# Altium footprint library Passive.PcbLib: 41 footprints (part 2 of 3)
Each footprint in its own frame and in the unit in brackets; x right, y up, seen from the top. Pads: shape width x height; smd on the part's side, far side on the other; paste and mask are expansions set on the pad; w line width, h text height; cw(c..) or ccw(c..) is an arc to the next point about the centre after c.
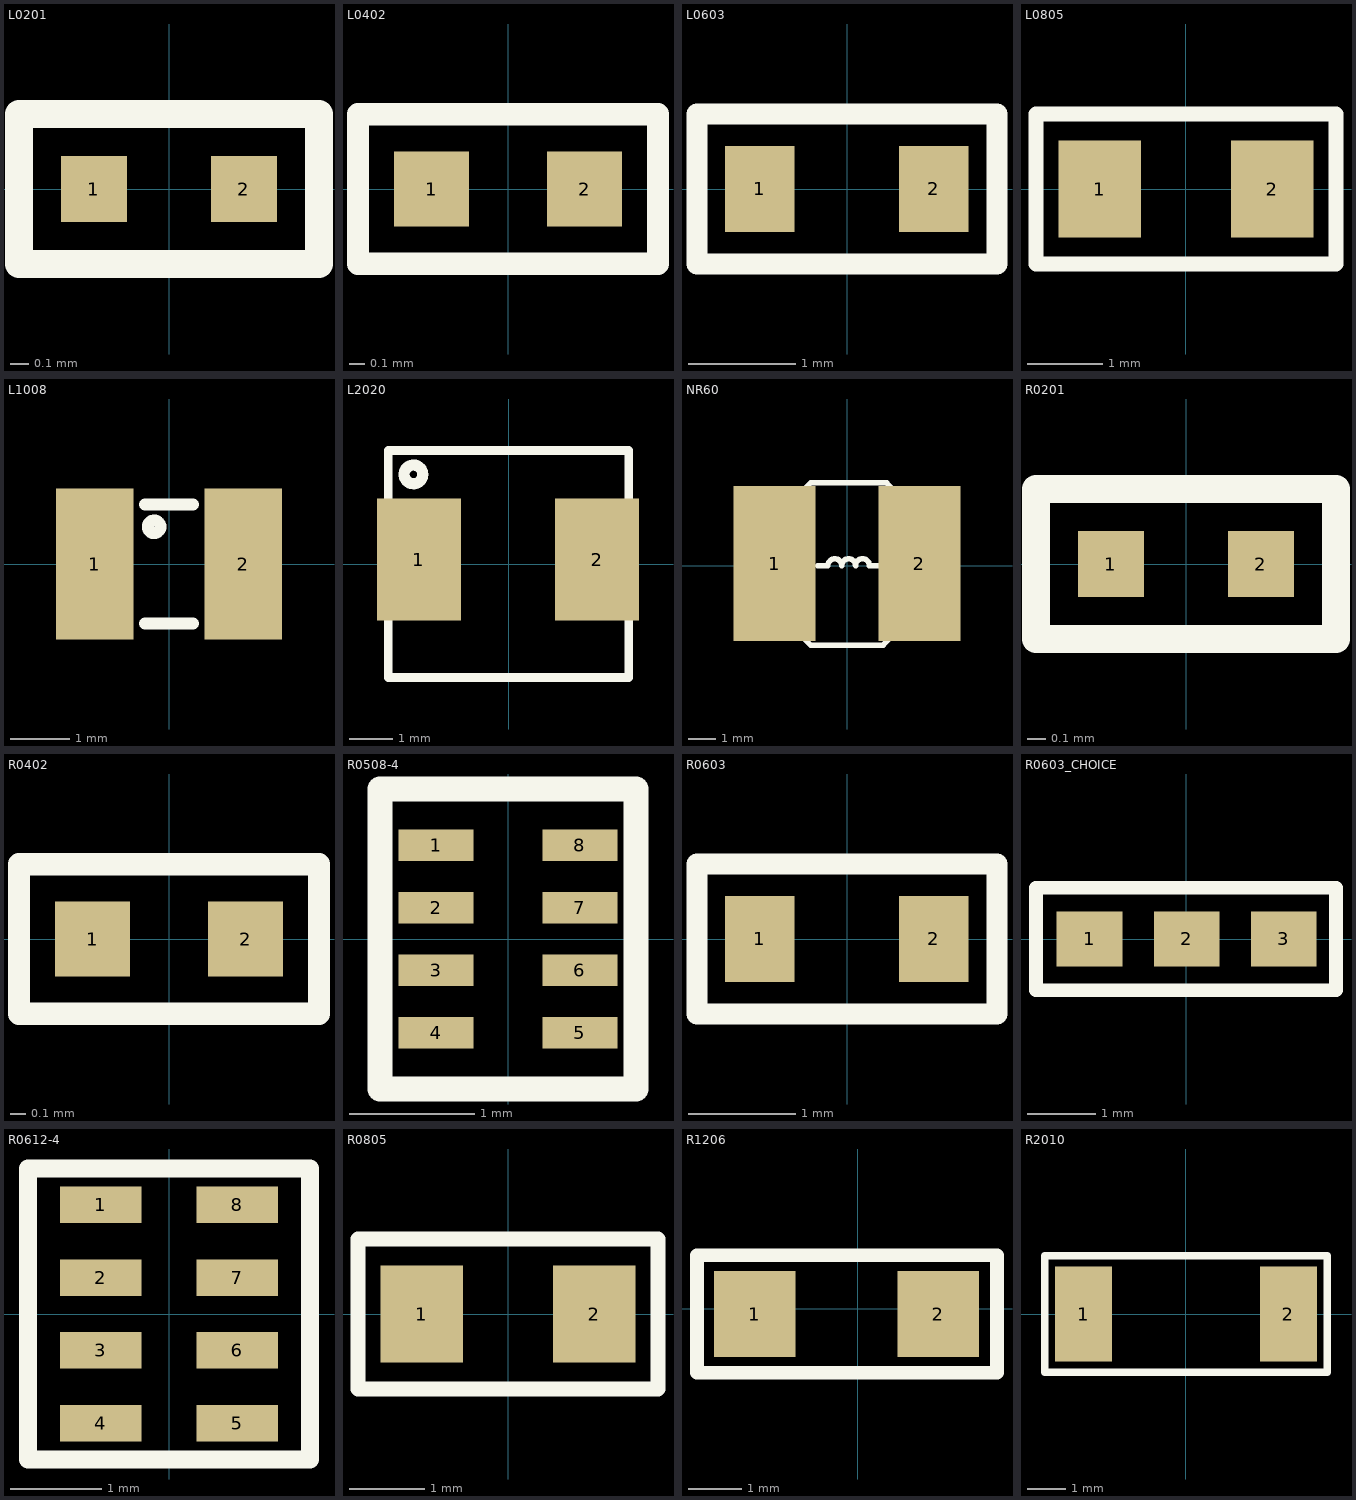
[diagram p1: the footprints below, top view; thin cyan lines are the x and y axes]

## L0201 [mm] "SMD Body 0.6 x 0.3 mm (LxW typ)"
height 0.35
pads (2):
  rect 0.35x0.35 smd: 1(-0.4,0) 2(0.4,0)
Top Overlay:
  lines w0.15: -0.8,-0.4 0.8,-0.4 0.8,0.4 -0.8,0.4 -0.8,-0.4
3D body "User Library-res0201-1.STEP": height 0.23, standoff 0, extent -0.3,-0.15 0.3,0.15

## L0402 [mm]
pads (2):
  rect 0.5x0.5 smd: 1(-0.51,0) 2(0.51,0)
Top Overlay:
  lines w0.15: -1,-0.5 -1,0.5 1,0.5 1,-0.5 -1,-0.5
3D body "User Library-res0402-1.STEP": height 0.3, standoff 0, extent -0.5,-0.25 0.5,0.25

## L0603 [mm]
pads (2):
  rect 0.65x0.8 smd: 1(-0.815,0) 2(0.81,0)
Top Overlay:
  lines w0.2: -1.4,-0.7 -1.4,0.7 1.4,0.7 1.4,-0.7 -1.4,-0.7
3D body "User Library-Chip Resistor_0603 (1608).STEP": height 0.47, standoff 0, extent -0.775,-0.4 0.825,0.402

## L0805 [mm]
pads (2):
  rect 1.1x1.3 smd: 1(-1.15,0) 2(1.15,0)
Top Overlay:
  lines w0.2: -2,-1 -2,1 2,1 2,-1 -2,-1
3D body "User Library-CRS0805.STEP": height 0.5, standoff 0, extent -1,-0.625 1,0.625

## L1008 [mm] "Inductor 1008 package"
pads (2):
  rect 1.3x2.54 smd: 1(-1.25,0) 2(1.25,0)
Top Overlay:
  circle w0.2: c-0.25,0.625 r0.106
  lines w0.2: -0.4,-1 0.4,-1 ; -0.4,1 0.4,1
3D body: height 0.9, standoff 0, extent -1.249,-0.999 1.249,0.999

## L2020 [mm]
pads (2):
  rect 1.915x2.79 smd: 1(-2.05,0.1) 2(2.025,0.1)
Top Overlay:
  circle w0.254: c-2.175,2.05 r0.214
  lines w0.2: -2.75,-2.6 2.75,-2.6 2.75,2.6 -2.75,2.6 -2.75,-2.6
3D body "SMD_2020.stp": height 2, standoff 0.08, extent -2.751,-2.561 2.7,2.585

## NR60 [mm] "TAIYO INDUCTOR"
height 2.8
pads (2):
  rect 3x5.7 smd: 1(-2.671,0.079) 2(2.654,0.079)
Top Overlay:
  lines w0.2: -1.091,0 -0.71,0 cw(c-0.456,0) -0.202,0 cw(c0.052,0) 0.306,0 cw(c0.56,0) 0.814,0 1.195,0 ; -2.615,-1.651 -2.615,1.778 -1.345,3.048 1.449,3.048 2.592,1.905 2.592,-1.651 1.322,-2.921 -1.345,-2.921 -2.615,-1.651
3D body "User Library-Inductor SDR0403 Series.STEP": height 3.25, standoff 0, extent -2.201,-2.2 2.201,2.3

## R0201 [mm] "SMD Body 0.6 x 0.3 mm (LxW typ)"
height 0.35
pads (2):
  rect 0.35x0.35 smd: 1(-0.4,0) 2(0.4,0)
Top Overlay:
  lines w0.15: -0.8,-0.4 -0.8,0.4 0.8,0.4 0.8,-0.4 -0.8,-0.4
3D body "User Library-res0201-1.STEP": height 0.23, standoff 0, extent -0.3,-0.15 0.3,0.15

## R0402 [mm]
pads (2):
  rect 0.5x0.5 smd: 1(-0.51,0) 2(0.51,0)
Top Overlay:
  lines w0.15: -1,-0.5 -1,0.5 1,0.5 1,-0.5 -1,-0.5
3D body "User Library-res0402-1.STEP": height 0.3, standoff 0, extent -0.5,-0.25 0.5,0.25

## R0508-4 [mm] "Resistor array (4 resistors)"
pads (8):
  rect 0.6x0.25 smd: 1(-0.575,0.75) 2(-0.575,0.25) 3(-0.575,-0.25) 4(-0.575,-0.75) 5(0.575,-0.75) 6(0.575,-0.25) 7(0.575,0.25) 8(0.575,0.75)
Top Overlay:
  lines w0.2: -1.025,-1.2 -1.025,1.2 1.025,1.2 1.025,-1.2 -1.025,-1.2
3D body "User Library-741C083.step": height 0.35, standoff -0.03, extent -0.502,-1 0.502,1

## R0603 [mm]
pads (2):
  rect 0.65x0.8 smd: 1(-0.815,0) 2(0.81,0)
Top Overlay:
  lines w0.2: -1.4,-0.7 1.4,-0.7 1.4,0.7 -1.4,0.7 -1.4,-0.7
3D body "User Library-Chip Resistor_0603 (1608).STEP": height 0.47, standoff 0, extent -0.8,-0.402 0.8,0.4

## R0603_CHOICE [mm] "0603 placement for choice line"
pads (3):
  rect 0.965x0.8 smd: 1(-1.415,0) 2(0.01,0) 3(1.435,0)
Top Overlay:
  lines w0.2: -2.2,-0.75 2.2,-0.75 2.2,0.75 -2.2,0.75 -2.2,-0.75
3D body "User Library-Chip Resistor_0603 (1608).STEP": height 0.47, standoff 0, extent -1.475,-0.4 0.125,0.402

## R0612-4 [mm] "Resistor array (4 resistors)"
pads (8):
  rect 0.9x0.4 smd: 1(-0.75,1.2) 2(-0.75,0.4) 3(-0.75,-0.4) 4(-0.75,-1.2) 5(0.75,-1.2) 6(0.75,-0.4) 7(0.75,0.4) 8(0.75,1.2)
Top Overlay:
  lines w0.2: -1.55,-1.6 1.55,-1.6 1.55,1.6 -1.55,1.6 -1.55,-1.6
3D body "User Library-Array-1206-4Way-Var1.STEP": height 0.5, standoff 0, extent -0.8,-1.6 0.8,1.6

## R0805 [mm]
pads (2):
  rect 1.1x1.3 smd: 1(-1.15,0) 2(1.15,0)
Top Overlay:
  lines w0.2: -2,-1 -2,1 2,1 2,-1 -2,-1
3D body "User Library-CRS0805.STEP": height 0.5, standoff 0, extent -1,-0.625 1,0.625

## R1206 [mm]
pads (2):
  rect 1.52x1.6 smd: 1(-1.925,-0.1) 2(1.5,-0.1)
Top Overlay:
  lines w0.254: -3,-1.2 -3,1 2.6,1 2.6,-1.2 -3,-1.2
3D body "User Library-CRS1206.STEP": height 0.55, standoff 0, extent -1.75,-0.9 1.35,0.7

## R2010 [mm] "SMD Body 5 x 2.5 mm (LxW typ)"
height 0.5
pads (2):
  rect 1.5x2.5 smd: 1(-2.675,0) 2(2.7,0)
Top Overlay:
  lines w0.2: -3.7,-1.525 -3.7,1.525 3.725,1.525 3.725,-1.525 -3.7,-1.525
3D body "User Library-R2010-1.STEP": height 0.55, standoff 0, extent -2.5,-1.26 2.5,1.26